# Altium schematic symbol library SCH - MCU - ATSAM - MICROCHIP ATSAMG54J19-MU QFN64.SchLib: 1 symbol
Pins are listed as number, name and electrical type; pins without a type are passive.

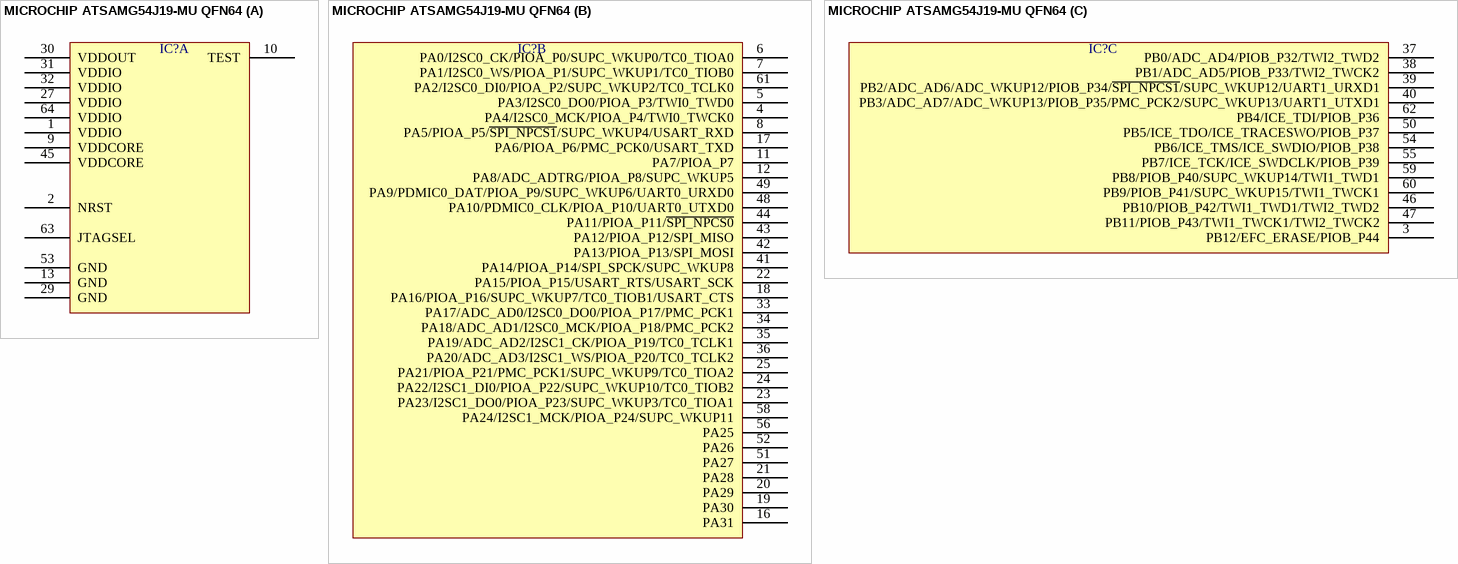
[diagram p0: symbol MICROCHIP ATSAMG54J19-MU QFN64]

## MICROCHIP ATSAMG54J19-MU QFN64
designator IC?  (value not drawn)
part A pins: 1 VDDIO, 2 NRST, 9 VDDCORE, 10 TEST, 13 GND, 27 VDDIO, 29 GND, 30 VDDOUT, 31 VDDIO, 32 VDDIO, 45 VDDCORE, 53 GND, 63 JTAGSEL, 64 VDDIO
part B pins: 4 PA4/I2SC0_MCK/PIOA_P4/TWI0_TWCK0, 5 PA3/I2SC0_DO0/PIOA_P3/TWI0_TWD0, 6 PA0/I2SC0_CK/PIOA_P0/SUPC_WKUP0/TC0_TIOA0, 7 PA1/I2SC0_WS/PIOA_P1/SUPC_WKUP1/TC0_TIOB0, 8 PA5/PIOA_P5/~{SPI_NPCS1}/SUPC_WKUP4/USART_RXD, 11 PA7/PIOA_P7, 12 PA8/ADC_ADTRG/PIOA_P8/SUPC_WKUP5, 16 PA31, 17 PA6/PIOA_P6/PMC_PCK0/USART_TXD, 18 PA16/PIOA_P16/SUPC_WKUP7/TC0_TIOB1/USART_CTS, 19 PA30, 20 PA29, 21 PA28, 22 PA15/PIOA_P15/USART_RTS/USART_SCK, 23 PA23/I2SC1_DO0/PIOA_P23/SUPC_WKUP3/TC0_TIOA1, 24 PA22/I2SC1_DI0/PIOA_P22/SUPC_WKUP10/TC0_TIOB2, 25 PA21/PIOA_P21/PMC_PCK1/SUPC_WKUP9/TC0_TIOA2, 33 PA17/ADC_AD0/I2SC0_DO0/PIOA_P17/PMC_PCK1, 34 PA18/ADC_AD1/I2SC0_MCK/PIOA_P18/PMC_PCK2, 35 PA19/ADC_AD2/I2SC1_CK/PIOA_P19/TC0_TCLK1, 36 PA20/ADC_AD3/I2SC1_WS/PIOA_P20/TC0_TCLK2, 41 PA14/PIOA_P14/SPI_SPCK/SUPC_WKUP8, 42 PA13/PIOA_P13/SPI_MOSI, 43 PA12/PIOA_P12/SPI_MISO, 44 PA11/PIOA_P11/~{SPI_NPCS0}, 48 PA10/PDMIC0_CLK/PIOA_P10/UART0_UTXD0, 49 PA9/PDMIC0_DAT/PIOA_P9/SUPC_WKUP6/UART0_URXD0, 51 PA27, 52 PA26, 56 PA25, 58 PA24/I2SC1_MCK/PIOA_P24/SUPC_WKUP11, 61 PA2/I2SC0_DI0/PIOA_P2/SUPC_WKUP2/TC0_TCLK0
part C pins: 3 PB12/EFC_ERASE/PIOB_P44, 37 PB0/ADC_AD4/PIOB_P32/TWI2_TWD2, 38 PB1/ADC_AD5/PIOB_P33/TWI2_TWCK2, 39 PB2/ADC_AD6/ADC_WKUP12/PIOB_P34/~{SPI_NPCS1}/SUPC_WKUP12/UART1_URXD1, 40 PB3/ADC_AD7/ADC_WKUP13/PIOB_P35/PMC_PCK2/SUPC_WKUP13/UART1_UTXD1, 46 PB10/PIOB_P42/TWI1_TWD1/TWI2_TWD2, 47 PB11/PIOB_P43/TWI1_TWCK1/TWI2_TWCK2, 50 PB5/ICE_TDO/ICE_TRACESWO/PIOB_P37, 54 PB6/ICE_TMS/ICE_SWDIO/PIOB_P38, 55 PB7/ICE_TCK/ICE_SWDCLK/PIOB_P39, 59 PB8/PIOB_P40/SUPC_WKUP14/TWI1_TWD1, 60 PB9/PIOB_P41/SUPC_WKUP15/TWI1_TWCK1, 62 PB4/ICE_TDI/PIOB_P36